# Altium schematic symbol library RasPagerADF7012.SchLib: 2 symbols
Pins are listed as number, name and electrical type; pins without a type are passive.

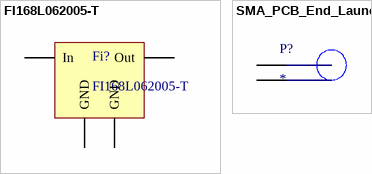
[diagram p0: symbols FI168L062005-T to SMA_PCB_End_Launch]

## FI168L062005-T
designator Fi?
Farnell: 2084801
footprint FI 168L062005 (Band Pass Filter)
pins: 1 In, 2 Out, 3 GND, 4 GND

## SMA_PCB_End_Launch
designator P?
Manufacturer: JOHNSON; PartNr: 142-0701-801; Farnell: 1608592
footprint SMA_End_Launch_142-0701-801
pins: 1 Signal, 2 Ground